# Altium integrated library POINT.IntLib: 1 symbol
Pins are listed as number, name and electrical type; pins without a type are passive.

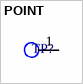
[diagram p0: symbol POINT]

## POINT
designator TP?, comment Test_Point_PCB  (value not drawn)
footprint Point
pins: 1 G9